# EAGLE library part TRANSFORMER-CUSTOM-PSFB (library Labops_Lib_AH)
transformer custom made, NP:NS1:NS2 = 1:4.52:4.52, Core= Toroid B64290A0705X830 from Epcos
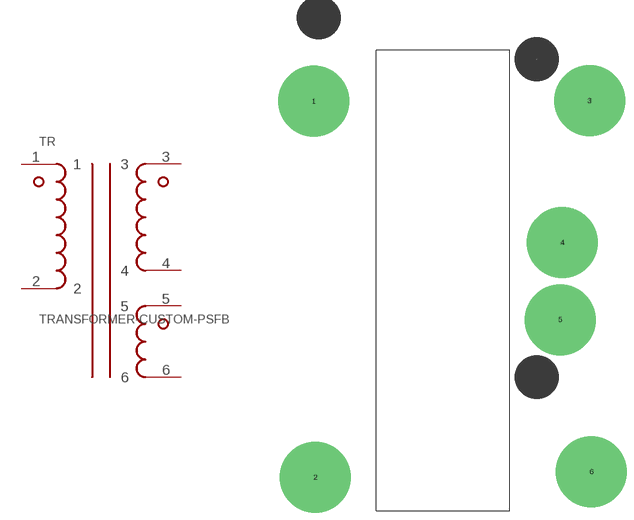
[diagram p67: symbol with the pads of TOROID_B64290A0705X830; footprint TOROID_B64290A0705X830]

Designator prefix TR

## TRANSFORMER-CUSTOM-PSFB  [TOROID_B64290A0705X830]
1  1
2  2
3  3
4  4
5  5
6  6

## Footprint TOROID_B64290A0705X830 (pad centres in mm)
drill 8 pad 16: 1 -29.21,40.386; 2 -28.829,-44.45; 3 33.02,40.513; 4 26.797,8.509; 5 26.416,-8.89; 6 33.401,-43.18